# Altium footprint library Filter.PcbLib: 1 footprints
Each footprint in its own frame and in the unit in brackets; x right, y up, seen from the top. Pads: shape width x height; smd on the part's side, far side on the other; paste and mask are expansions set on the pad; w line width, h text height; cw(c..) or ccw(c..) is an arc to the next point about the centre after c.
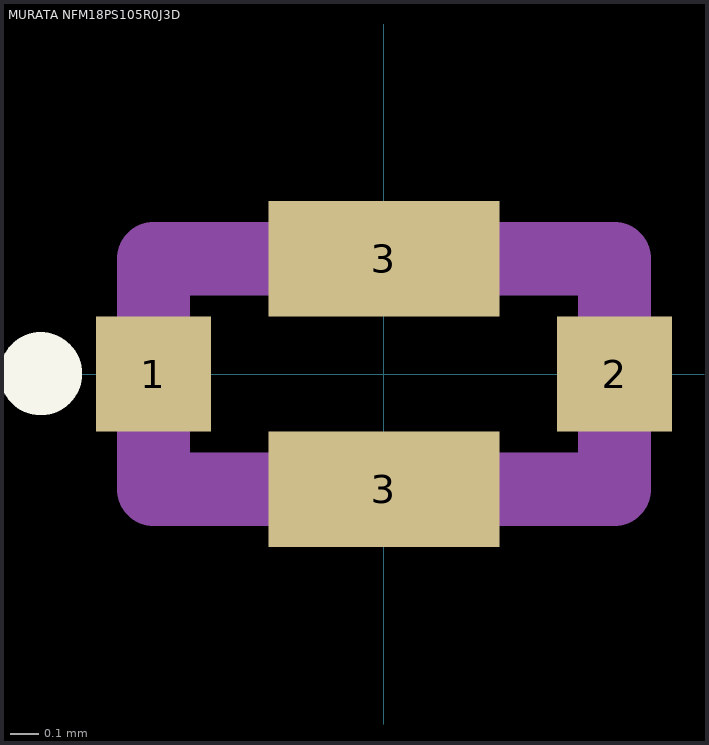
[diagram p0: the footprint, top view; thin cyan lines are the x and y axes]

## MURATA NFM18PS105R0J3D [mm]
height 0.6
pads (4):
  rect 0.4x0.4 smd: 1(-0.8,0) 2(0.8,0)
  rect 0.8x0.4 smd: 3(0,-0.4) 3(0,0.4)
Top Overlay:
  circle w0.254: c-1.191,0.001 r0.017
Mechanical 13:
  lines w0.254: -0.8,-0.4 -0.8,0.4 0.8,0.4 0.8,-0.4 -0.8,-0.4
3D body "Murata NFM18PS.STEP": height 0.6, standoff 0, extent -0.8,-0.4 0.8,0.4